# EAGLE library part 61000821121 (library Wuerth_Elektronik_eiCan_Pin_&_Socked_Headers_v1.3)
WR-PHD 2.54mm Dual SMT Pin Header, 8 Pins
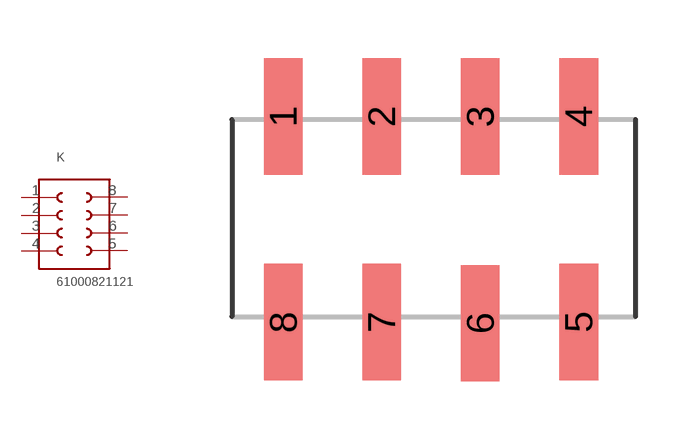
[diagram p91: symbol with the pads of 61000821121; footprint 61000821121]

Designator prefix K

## 61000821121  [61000821121]
1  1  pas
2  2  pas
3  3  pas
4  4  pas
5  5  pas
6  6  pas
7  7  pas
8  8  pas

## Footprint 61000821121 (pad centres in mm)
WR-PHD 2.54mm Dual SMT Pin Header, 8 Pins
smd 1 x 3: 1 -6.35,2.54; 2 -3.81,2.54; 3 -1.27,2.54; 4 1.27,2.54; 5 1.27,-2.76; 6 -1.27,-2.79; 7 -3.81,-2.76; 8 -6.35,-2.76